# EAGLE library part LEDVOLTMETER_MAX1499 (library icboard)
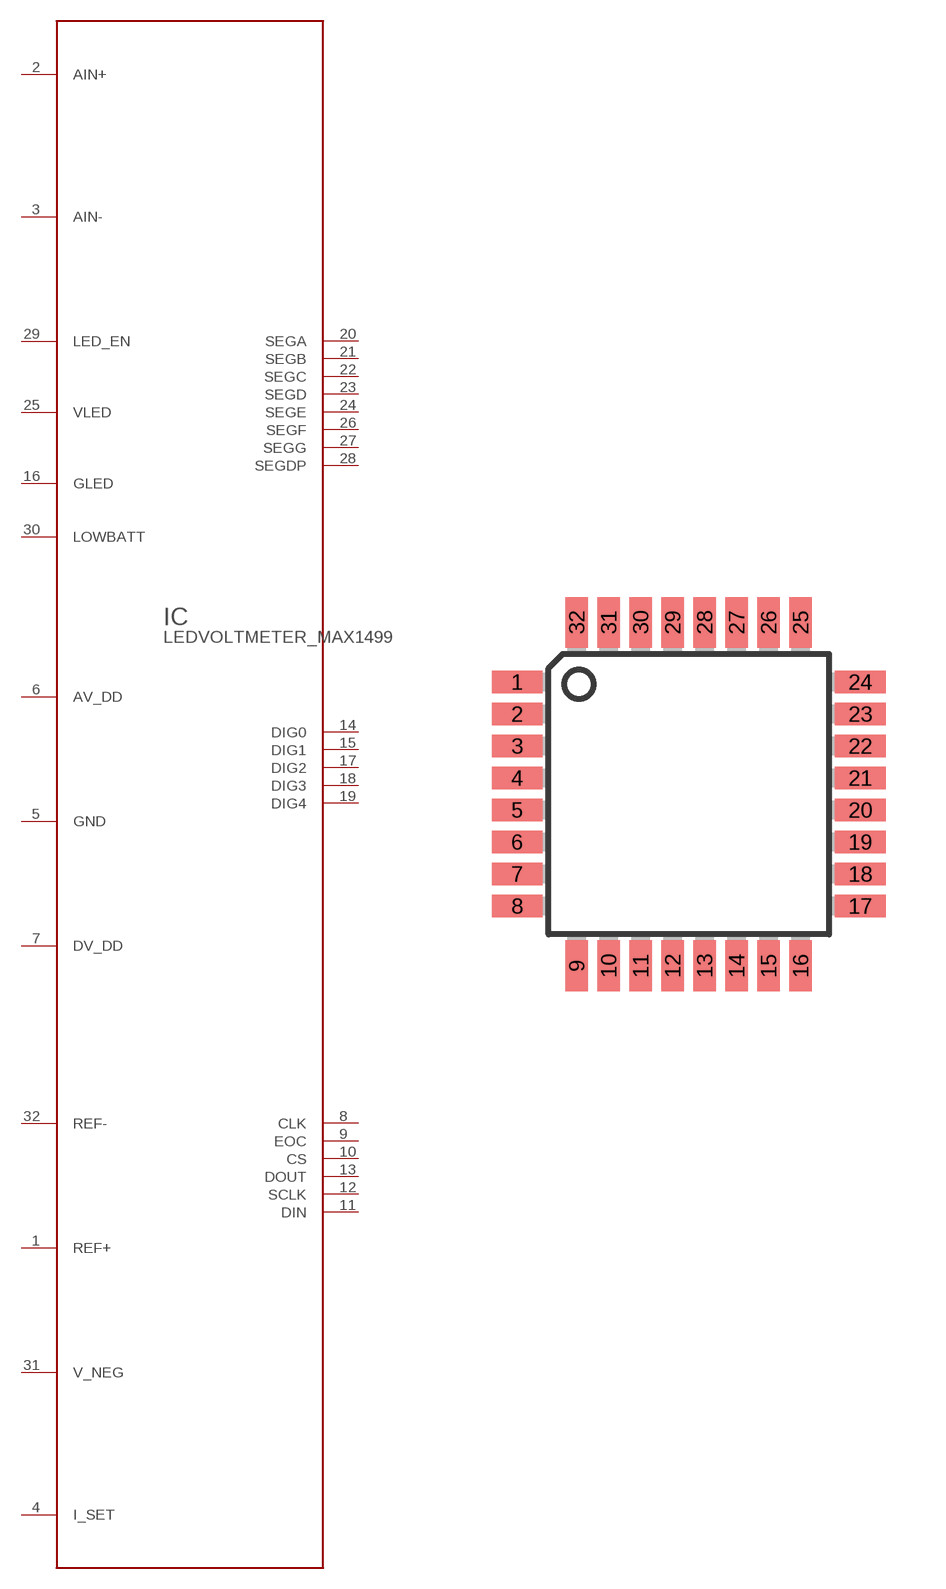
[diagram p0: symbol with the pads of LEDVOLTMETER_TQFP32-08; footprint LEDVOLTMETER_TQFP32-08]

Designator prefix IC

## LEDVOLTMETER_MAX1499  [LEDVOLTMETER_TQFP32-08]
1  REF+
2  AIN+  in
3  AIN-  in
4  I_SET  in
5  GND  pas
6  AV_DD  pas
7  DV_DD  pas
8  CLK  in
9  EOC  out
10  CS  in
11  DIN  in
12  SCLK  in
13  DOUT  out
14  DIG0  in
15  DIG1  in
16  GLED  in
17  DIG2  in
18  DIG3  in
19  DIG4  in
20  SEGA  out
21  SEGB  out
22  SEGC  out
23  SEGD  out
24  SEGE  out
25  VLED  in
26  SEGF  out
27  SEGG  out
28  SEGDP  out
29  LED_EN  in
30  LOWBATT  pas
31  V_NEG  pas
32  REF-  in

## Footprint LEDVOLTMETER_TQFP32-08 (pad centres in mm)
Thin Plasic Quad Flat Package Grid 0.8 mm
smd 1.27 x 0.559: 1 -4.293,2.8; 2 -4.293,2; 3 -4.293,1.2; 4 -4.293,0.4; 5 -4.293,-0.4; 6 -4.293,-1.2; 7 -4.293,-2; 8 -4.293,-2.8; 17 4.293,-2.8; 18 4.293,-2; 19 4.293,-1.2; 20 4.293,-0.4; 21 4.293,0.4; 22 4.293,1.2; 23 4.293,2; 24 4.293,2.8
smd 0.559 x 1.27: 9 -2.8,-4.293; 10 -2,-4.293; 11 -1.2,-4.293; 12 -0.4,-4.293; 13 0.4,-4.293; 14 1.2,-4.293; 15 2,-4.293; 16 2.8,-4.293; 25 2.8,4.293; 26 2,4.293; 27 1.2,4.293; 28 0.4,4.293; 29 -0.4,4.293; 30 -1.2,4.293; 31 -2,4.293; 32 -2.8,4.293